# EAGLE library part PIN_HEADER_MALE_L_2X15_30P (library 180118 Library by matsu)
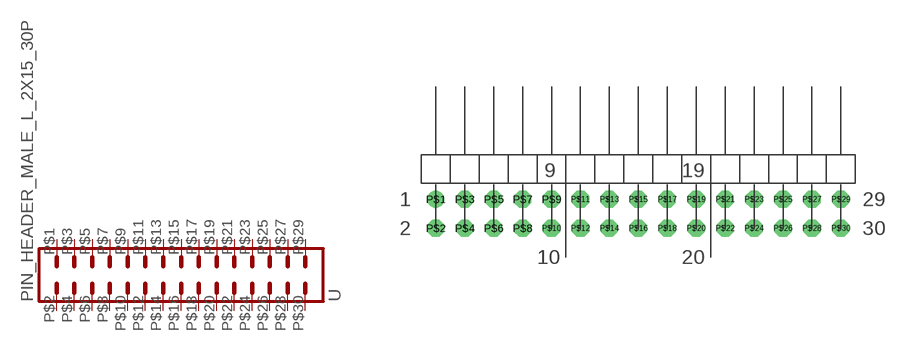
[diagram p33: symbol with the pads of PIN_HEADER_MALE_L_2X15_30P; footprint PIN_HEADER_MALE_L_2X15_30P]

Designator prefix -

## PIN_HEADER_MALE_L_2X15_30P  [PIN_HEADER_MALE_L_2X15_30P]
P$1  P$1
P$2  P$2
P$3  P$3
P$4  P$4
P$5  P$5
P$6  P$6
P$7  P$7
P$8  P$8
P$9  P$9
P$10  P$10
P$11  P$11
P$12  P$12
P$13  P$13
P$14  P$14
P$15  P$15
P$16  P$16
P$17  P$17
P$18  P$18
P$19  P$19
P$20  P$20
P$21  P$21
P$22  P$22
P$23  P$23
P$24  P$24
P$25  P$25
P$26  P$26
P$27  P$27
P$28  P$28
P$29  P$29
P$30  P$30

## Footprint PIN_HEADER_MALE_L_2X15_30P (pad centres in mm)
drill 1: P$1 -25.4,7.62
drill 1 octagon: P$2 -25.4,5.08; P$3 -22.86,7.62; P$4 -22.86,5.08; P$5 -20.32,7.62; P$6 -20.32,5.08; P$7 -17.78,7.62; P$8 -17.78,5.08; P$9 -15.24,7.62; P$10 -15.24,5.08; P$11 -12.7,7.62; P$12 -12.7,5.08; P$13 -10.16,7.62; P$14 -10.16,5.08; P$15 -7.62,7.62; P$16 -7.62,5.08; P$17 -5.08,7.62; P$18 -5.08,5.08; P$19 -2.54,7.62; P$20 -2.54,5.08; P$21 0,7.62; P$22 0,5.08; P$23 2.54,7.62; P$24 2.54,5.08; P$25 5.08,7.62; P$26 5.08,5.08; P$27 7.62,7.62; P$28 7.62,5.08; P$29 10.16,7.62; P$30 10.16,5.08